# Altium schematic symbol library Balun.SchLib: 1 symbol
Pins are listed as number, name and electrical type; pins without a type are passive.

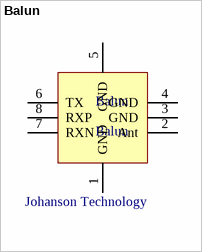
[diagram p0: symbol Balun]

## Balun
designator Balun  Mfr 1: Johanson Technology
433 MHz Impedance Matched Balun
footprint Balun
pins: 1 GND, 2 Ant, 3 GND, 4 GND, 5 GND, 6 TX, 7 RXN, 8 RXP